# Altium footprint library rlc-chip.PcbLib: 57 footprints (part 2 of 4)
Each footprint in its own frame and in the unit in brackets; x right, y up, seen from the top. Pads: shape width x height; smd on the part's side, far side on the other; paste and mask are expansions set on the pad; w line width, h text height; cw(c..) or ccw(c..) is an arc to the next point about the centre after c.
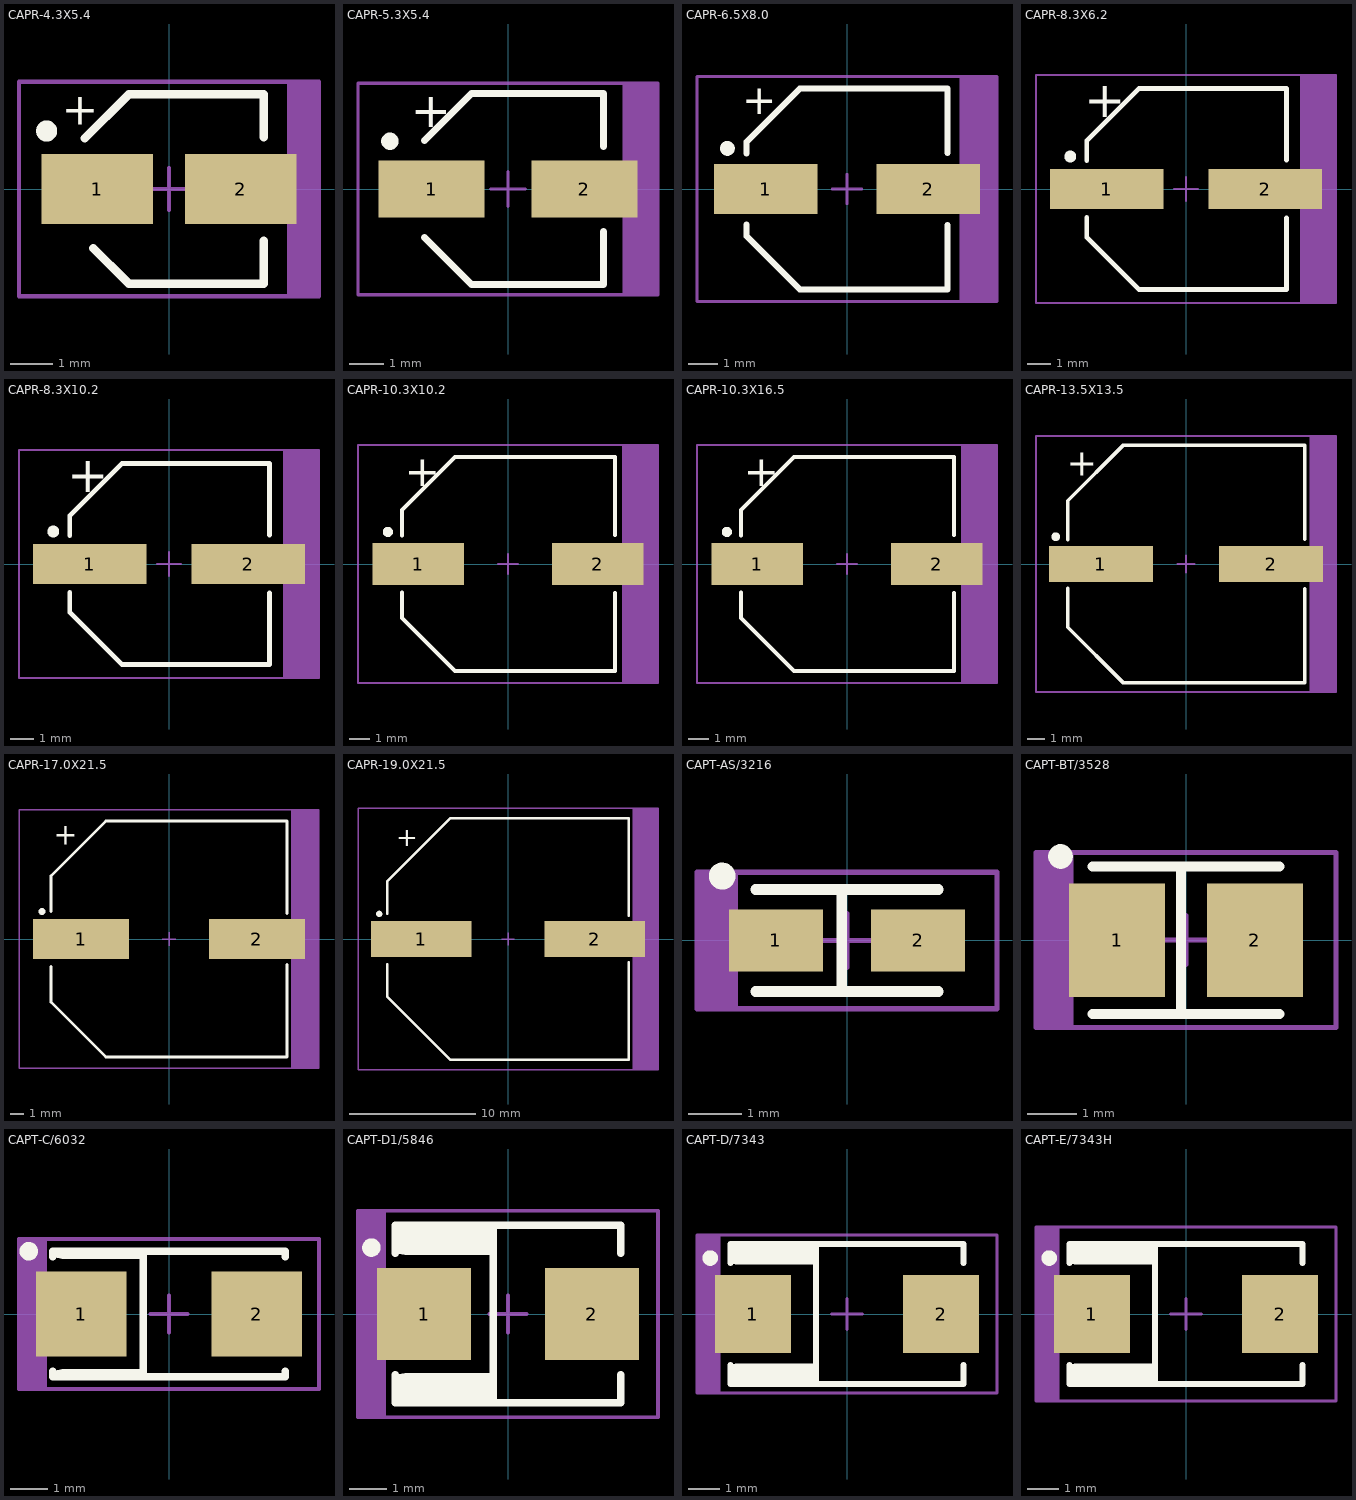
[diagram p1: the footprints below, top view; thin cyan lines are the x and y axes]

## CAPR-4.3X5.4 [mm] "Molded Capacitor, 2-Leads, Body 4,30x4,30mm, IPC Medium Density"
height 1
pads (2):
  rect 2.65x1.65 smd: 1(-1.7,0) 2(1.7,0)
Top Overlay:
  circle w0.25: c-2.9,1.375 r0.125
  lines w0.2: -2,1.2 -1,2.2 -0.95,2.25 2.25,2.25 2.25,1.225 ; -1.8,-1.4 -1,-2.2 -0.95,-2.25 2.25,-2.25 2.25,-1.225
  text "+" at -2.54,1.524 h0.76
Mechanical 13:
  region: 3.556,2.54 2.794,2.54 2.794,-2.54 3.556,-2.54
  lines w0.1: -3.556,-2.54 -3.556,2.54 3.556,2.54 3.556,-2.54 -3.556,-2.54
  text ".Designator" at -2.13,-0.56 h1.2
Mechanical 15:
  lines w0.05: -3.556,-2.54 -3.556,2.54 3.556,2.54 3.556,-2.54 -3.556,-2.54
  lines w0.1: -0.5,0 0.5,0 ; 0,-0.5 0,0.5
3D body: height 5.5, standoff 1, extent -2,-2 2,2
3D body: height 1, standoff 0, extent -2.3,-2.25 2.25,2.25

## CAPR-5.3X5.4 [mm] "Molded Capacitor, 2-Leads, Body 5,30x5,30mm, IPC Medium Density"
height 1
pads (2):
  rect 3.05x1.65 smd: 1(-2.2,0) 2(2.2,0)
Top Overlay:
  circle w0.25: c-3.4,1.375 r0.125
  lines w0.2: -2.4,-1.4 -1.05,-2.75 -1,-2.75 2.75,-2.75 2.75,-1.225 ; -2.4,1.4 -1.05,2.75 -0.95,2.75 2.75,2.75 2.75,1.225
  text "+" at -2.794,1.778 h1.02
Mechanical 13:
  region: 4.318,3.048 3.302,3.048 3.302,-3.048 4.318,-3.048
  lines w0.1: -4.318,-3.048 -4.318,3.048 4.318,3.048 4.318,-3.048 -4.318,-3.048
  text ".Designator" at -2.38,-0.62 h1.4
Mechanical 15:
  lines w0.05: -4.318,-3.048 -4.318,3.048 4.318,3.048 4.318,-3.048 -4.318,-3.048
  lines w0.1: -0.5,0 0.5,0 ; 0,-0.5 0,0.5
3D body: height 1, standoff 0, extent -2.8,-2.75 2.75,2.75
3D body: height 5.5, standoff 1, extent -2.5,-2.497 2.5,2.497

## CAPR-6.5X8.0 [mm] "Molded Capacitor, 2-Leads, Body 6,60x6,60mm, IPC Medium Density"
height 1
pads (2):
  rect 3.5x1.7 smd: 1(-2.75,0) 2(2.75,0)
Top Overlay:
  circle w0.25: c-4.05,1.375 r0.125
  lines w0.2: -3.4,-1.2 -3.4,-1.6 -1.6,-3.4 3.4,-3.4 3.4,-1.225 ; -3.4,1.2 -3.4,1.6 -1.6,3.4 3.4,3.4 3.4,1.225
  text "+" at -3.556,2.54 h1.02
Mechanical 13:
  region: 5.08,3.81 3.81,3.81 3.81,-3.81 5.08,-3.81
  lines w0.1: -5.08,-3.81 5.08,-3.81 5.08,3.81 -5.08,3.81 -5.08,-3.81
  text ".Designator" at -3.97,-0.91 h2
Mechanical 15:
  lines w0.05: -5.08,-3.81 5.08,-3.81 5.08,3.81 -5.08,3.81 -5.08,-3.81
  lines w0.1: -0.5,0 0.5,0 ; 0,-0.5 0,0.5
3D body: height 1, standoff 0, extent -3.4,-3.4 3.4,3.4
3D body: height 8, standoff 1, extent -3.2,-3.197 3.2,3.197

## CAPR-8.3X6.2 [mm] "Molded Capacitor, 2-Leads, Body 8,30x8,30mm, IPC Medium Density"
height 1
pads (2):
  rect 4.8x1.7 smd: 1(-3.35,0) 2(3.35,0)
Top Overlay:
  circle w0.25: c-4.9,1.375 r0.125
  lines w0.2: -4.2,-1.2 -4.2,-2.05 -2,-4.25 4.25,-4.25 4.25,-1.225 ; -4.2,1.2 -4.2,2.05 -2,4.25 4.25,4.25 4.25,1.225
  text "+" at -4.318,3.048 h1.52
Mechanical 13:
  region: 6.35,4.826 4.826,4.826 4.826,-4.826 6.35,-4.826
  lines w0.1: -6.35,-4.826 6.35,-4.826 6.35,4.826 -6.35,4.826 -6.35,-4.826
  text ".Designator" at -3.61,-0.96 h2
Mechanical 15:
  lines w0.05: -6.35,-4.826 6.35,-4.826 6.35,4.826 -6.35,4.826 -6.35,-4.826
  lines w0.1: -0.5,0 0.5,0 ; 0,-0.5 0,0.5
3D body: height 6, standoff 1, extent -4,-3.997 4,3.997
3D body: height 1, standoff 0, extent -4.25,-4.25 4.25,4.25

## CAPR-8.3X10.2 [mm] "Molded Capacitor, 2-Leads, Body 8,30x8,30mm, IPC Medium Density"
height 1
pads (2):
  rect 4.8x1.7 smd: 1(-3.35,0) 2(3.35,0)
Top Overlay:
  circle w0.25: c-4.9,1.375 r0.125
  lines w0.2: -4.2,-1.2 -4.2,-2.05 -2,-4.25 4.25,-4.25 4.25,-1.225 ; -4.2,1.2 -4.2,2.05 -2,4.25 4.25,4.25 4.25,1.225
  text "+" at -4.318,3.048 h1.52
Mechanical 13:
  region: 6.35,4.826 4.826,4.826 4.826,-4.826 6.35,-4.826
  lines w0.1: -6.35,-4.826 6.35,-4.826 6.35,4.826 -6.35,4.826 -6.35,-4.826
  text ".Designator" at -3.62,-1 h2
Mechanical 15:
  lines w0.05: -6.35,-4.826 6.35,-4.826 6.35,4.826 -6.35,4.826 -6.35,-4.826
  lines w0.1: -0.5,0 0.5,0 ; 0,-0.5 0,0.5
3D body: height 10, standoff 1, extent -4,-3.997 4,3.997
3D body: height 1, standoff 0, extent -4.25,-4.25 4.25,4.25

## CAPR-10.3X10.2 [mm] "Molded Capacitor, 2-Leads, Body 10,30x10,30mm, IPC Medium Density"
height 1
pads (2):
  rect 4.5x2.05 smd: 1(-4.4,0) 2(4.4,0)
Top Overlay:
  circle w0.25: c-5.9,1.575 r0.125
  lines w0.2: -5.2,-1.4 -5.2,-2.65 -2.6,-5.25 5.25,-5.25 5.25,-1.425 ; -5.2,1.4 -5.2,2.65 -2.6,5.25 5.25,5.25 5.25,1.425
  text "+" at -5.08,3.81 h1.52
Mechanical 13:
  region: 7.366,5.842 5.588,5.842 5.588,-5.842 7.366,-5.842
  lines w0.1: -7.366,-5.842 -7.366,5.842 7.366,5.842 7.366,-5.842 -7.366,-5.842
  text ".Designator" at -3.51,-1.02 h2
Mechanical 15:
  lines w0.05: -7.366,-5.842 -7.366,5.842 7.366,5.842 7.366,-5.842 -7.366,-5.842
  lines w0.1: -0.5,0 0.5,0 ; 0,-0.5 0,0.5
3D body: height 10.5, standoff 1, extent -5,-5 5,5
3D body: height 1, standoff 0, extent -5.25,-5.25 5.25,5.25

## CAPR-10.3X16.5 [mm] "Molded Capacitor, 2-Leads, Body 10,30x10,30mm, IPC Medium Density"
height 1
pads (2):
  rect 4.5x2.05 smd: 1(-4.4,0) 2(4.4,0)
Top Overlay:
  circle w0.25: c-5.9,1.575 r0.125
  lines w0.2: -5.2,-1.4 -5.2,-2.65 -2.6,-5.25 5.25,-5.25 5.25,-1.425 ; -5.2,1.4 -5.2,2.65 -2.6,5.25 5.25,5.25 5.25,1.425
  text "+" at -5.08,3.81 h1.52
Mechanical 13:
  region: 7.366,5.842 5.588,5.842 5.588,-5.842 7.366,-5.842
  lines w0.1: -7.366,-5.842 -7.366,5.842 7.366,5.842 7.366,-5.842 -7.366,-5.842
  text ".Designator" at -3.41,-1.03 h2
Mechanical 15:
  lines w0.05: -7.366,-5.842 -7.366,5.842 7.366,5.842 7.366,-5.842 -7.366,-5.842
  lines w0.1: -0.5,0 0.5,0 ; 0,-0.5 0,0.5
3D body: height 10.5, standoff 1, extent -5,-5 5,5
3D body: height 1, standoff 0, extent -5.25,-5.25 5.25,5.25

## CAPR-13.5X13.5 [mm] "Molded Capacitor, 2-Leads, Body 13,50x13,50mm, IPC Medium Density"
height 1
pads (2):
  rect 6x2.05 smd: 1(-4.9,0) 2(4.9,0)
Top Overlay:
  circle w0.25: c-7.5,1.575 r0.125
  lines w0.2: -6.8,-1.4 -6.8,-3.65 -3.6,-6.85 6.85,-6.85 6.85,-1.425 ; -6.8,1.4 -6.8,3.65 -3.6,6.85 6.85,6.85 6.85,1.425
  text "+" at -6.858,5.08 h1.52
Mechanical 13:
  region: 8.636,7.366 7.112,7.366 7.112,-7.366 8.636,-7.366
  lines w0.1: -8.636,-7.366 8.636,-7.366 8.636,7.366 -8.636,7.366 -8.636,-7.366
  text ".Designator" at -3.45,-0.99 h2
Mechanical 15:
  lines w0.05: -8.636,-7.366 8.636,-7.366 8.636,7.366 -8.636,7.366 -8.636,-7.366
  lines w0.1: -0.5,0 0.5,0 ; 0,-0.5 0,0.5
3D body: height 17, standoff 1, extent -6.5,-6.5 6.5,6.5
3D body: height 1, standoff 0, extent -6.85,-6.85 6.85,6.85

## CAPR-17.0X21.5 [mm] "Molded Capacitor, 2-Leads, Body 17,00x17,00mm, IPC Medium Density"
height 1
pads (2):
  rect 7x2.9 smd: 1(-6.4,0) 2(6.4,0)
Top Overlay:
  circle w0.25: c-9.25,2 r0.125
  lines w0.2: -8.6,-2 -8.6,-4.6 -4.6,-8.6 ; -8.6,2 -8.6,4.6 -4.6,8.6 ; 8.6,-1.85 8.6,-8.6 -4.6,-8.6 ; 8.6,1.85 8.6,8.6 -4.6,8.6 ; -4.6,-8.6 -4.6,-8.6 ; -4.6,8.6 -4.6,8.6
  text "+" at -8.382,6.858 h1.52
Mechanical 13:
  region: 10.922,9.398 8.89,9.398 8.89,-9.398 10.922,-9.398
  lines w0.1: -10.922,-9.398 -10.922,9.398 10.922,9.398 10.922,-9.398 -10.922,-9.398
  text ".Designator" at -3.7,-1.01 h2
Mechanical 15:
  lines w0.05: -10.922,-9.398 -10.922,9.398 10.922,9.398 10.922,-9.398 -10.922,-9.398
  lines w0.1: -0.5,0 0.5,0 ; 0,-0.5 0,0.5
3D body: height 22, standoff 1, extent -8,-8 8,8
3D body: height 1, standoff 0, extent -8.6,-8.6 8.6,8.6

## CAPR-19.0X21.5 [mm] "Molded Capacitor, 2-Leads, Body 19,00x19,00mm, IPC Medium Density"
height 1
pads (2):
  rect 8x2.9 smd: 1(-6.9,0) 2(6.9,0)
Top Overlay:
  circle w0.25: c-10.25,2 r0.125
  lines w0.2: -9.6,-2 -9.6,-4.6 -4.6,-9.6 ; -9.6,2 -9.6,4.6 -4.6,9.6 9.6,9.6 9.6,1.85 ; 9.6,-1.85 9.6,-9.6 -4.6,-9.6 ; -4.6,-9.6 -4.6,-9.6
  text "+" at -8.89,7.366 h1.52
Mechanical 13:
  region: 11.938,10.414 9.906,10.414 9.906,-10.414 11.938,-10.414
  lines w0.1: -11.938,-10.414 -11.938,10.414 11.938,10.414 11.938,-10.414 -11.938,-10.414
  text ".Designator" at -3.61,-0.9 h2
Mechanical 15:
  lines w0.05: -11.938,-10.414 -11.938,10.414 11.938,10.414 11.938,-10.414 -11.938,-10.414
  lines w0.1: -0.5,0 0.5,0 ; 0,-0.5 0,0.5
3D body: height 22, standoff 1, extent -9,-8.997 9,8.997
3D body: height 1, standoff 0, extent -9.6,-9.6 9.6,9.6

## CAPT-AS/3216 [mm] "Molded Capacitor, 2-Leads, Body 3,20x1,65mm, IPC Medium Density"
height 1.8
pads (2):
  rect 1.75x1.15 smd: 1(-1.325,0) 2(1.325,0)
Top Overlay:
  circle w0.25: c-2.325,1.2 r0.125
  lines w0.2: -1.7,-0.95 1.7,-0.95 ; -1.7,0.95 1.7,0.95 ; -0.1,-0.95 -0.1,0.95
Mechanical 13:
  rectangle: -2.794,-1.27 -2.032,1.27
  lines w0.1: -2.794,-1.27 2.794,-1.27 2.794,1.27 -2.794,1.27 -2.794,-1.27
  text ".Designator" at -1.81,-0.57 h1.2
Mechanical 15:
  lines w0.05: -2.794,-1.27 2.794,-1.27 2.794,1.27 -2.794,1.27 -2.794,-1.27
  lines w0.1: -0.5,0 0.5,0 ; 0,-0.5 0,0.5
3D body: height 1.8, standoff 0, extent -1.7,-0.95 -0.4,0.95
3D body: height 1.8, standoff 0, extent -0.4,-0.95 1.7,0.95

## CAPT-BT/3528 [mm] "Molded Capacitor, 2-Leads, Body 3,50x2,85mm, IPC Medium Density"
height 2.1
pads (2):
  rect 1.95x2.3 smd: 1(-1.4,0) 2(1.4,0)
Top Overlay:
  circle w0.25: c-2.55,1.7 r0.125
  lines w0.2: -1.9,-1.5 1.9,-1.5 ; -1.9,1.5 1.9,1.5 ; -0.1,-1.5 -0.1,1.5
Mechanical 13:
  rectangle: -3.048,-1.778 -2.286,1.778
  lines w0.1: -3.048,-1.778 3.048,-1.778 3.048,1.778 -3.048,1.778 -3.048,-1.778
  text ".Designator" at -1.82,-0.56 h1.2
Mechanical 15:
  lines w0.05: -3.048,-1.778 3.048,-1.778 3.048,1.778 -3.048,1.778 -3.048,-1.778
  lines w0.1: -0.5,0 0.5,0 ; 0,-0.5 0,0.5
3D body: height 2.1, standoff 0, extent -1.9,-1.5 -0.4,1.5
3D body: height 2.1, standoff 0, extent -0.4,-1.5 1.85,1.5

## CAPT-C/6032 [mm] "Molded Capacitor, 2-Leads, Body 6,00x3,25mm, IPC Medium Density"
height 2.8
pads (2):
  rect 2.45x2.3 smd: 1(-2.375,0) 2(2.375,0)
Top Overlay:
  circle w0.25: c-3.8,1.7 r0.125
  region: -0.7,-1.5 -2.9,-1.5 -3.15,-1.55 -3.15,-1.7 -0.7,-1.7
  region: -0.7,1.5 -2.9,1.5 -3.15,1.55 -3.15,1.7 -0.7,1.7
  lines w0.2: -3.15,-1.55 -3.15,-1.7 3.15,-1.7 3.15,-1.55 ; -3.15,1.55 -3.15,1.7 3.15,1.7 3.15,1.55 ; -0.7,-1.7 -0.7,1.7
Mechanical 13:
  rectangle: -4.064,-2.032 -3.302,2.032
  lines w0.1: -4.064,-2.032 4.064,-2.032 4.064,2.032 -4.064,2.032 -4.064,-2.032
  text ".Designator" at -2.64,-0.72 h1.6
Mechanical 15:
  lines w0.05: -4.064,-2.032 -4.064,2.032 4.064,2.032 4.064,-2.032 -4.064,-2.032
  lines w0.1: -0.5,0 0.5,0 ; 0,-0.5 0,0.5
3D body: height 2.8, standoff 0, extent -3.15,-1.7 -1.2,1.7
3D body: height 2.8, standoff 0, extent -1.2,-1.7 3.1,1.7

## CAPT-D1/5846 [mm] "Molded Capacitor, 2-Leads, Body 5,80x4,60mm, IPC Medium Density"
height 3.4
pads (2):
  rect 2.55x2.5 smd: 1(-2.275,0) 2(2.275,0)
Top Overlay:
  circle w0.25: c-3.7,1.8 r0.125
  region: -0.4,-1.6 -2.8,-1.6 -3.05,-1.65 -3.05,-2.4 -0.4,-2.4
  region: -0.4,1.6 -2.8,1.6 -3.05,1.65 -3.05,2.4 -0.4,2.4
  lines w0.2: -3.05,-1.65 -3.05,-2.4 3.05,-2.4 3.05,-1.65 ; -3.05,1.65 -3.05,2.4 3.05,2.4 3.05,1.65 ; -0.4,-2.4 -0.4,2.4
Mechanical 13:
  rectangle: -4.064,-2.794 -3.302,2.794
  lines w0.1: -4.064,-2.794 -4.064,2.794 4.064,2.794 4.064,-2.794 -4.064,-2.794
  text ".Designator" at -2.66,-0.73 h1.6
Mechanical 15:
  lines w0.05: -4.064,-2.794 -4.064,2.794 4.064,2.794 4.064,-2.794 -4.064,-2.794
  lines w0.1: -0.5,0 0.5,0 ; 0,-0.5 0,0.5
3D body: height 3.4, standoff 0, extent -1,-2.4 3.05,2.4
3D body: height 3.4, standoff 0, extent -3.05,-2.4 -1,2.4

## CAPT-D/7343 [mm] "Molded Capacitor, 2-Leads, Body 7,30x4,35mm, IPC Medium Density"
height 3
pads (2):
  rect 2.45x2.5 smd: 1(-3.025,0) 2(3.025,0)
Top Overlay:
  circle w0.25: c-4.4,1.8 r0.125
  region: -1,1.6 -3.6,1.6 -3.75,1.65 -3.75,2.25 -1,2.25
  region: -1,-1.6 -3.6,-1.6 -3.75,-1.65 -3.75,-2.25 -1,-2.25
  lines w0.2: -3.75,-1.65 -3.75,-2.25 3.75,-2.25 3.75,-1.65 ; -3.75,1.65 -3.75,2.25 3.75,2.25 3.75,1.65 ; -1,-2.25 -1,2.25
Mechanical 13:
  rectangle: -4.826,-2.54 -4.064,2.54
  lines w0.1: -4.826,-2.54 -4.826,2.54 4.826,2.54 4.826,-2.54 -4.826,-2.54
  text ".Designator" at -3.35,-0.97 h2
Mechanical 15:
  lines w0.05: -4.826,-2.54 4.826,-2.54 4.826,2.54 -4.826,2.54 -4.826,-2.54
  lines w0.1: -0.5,0 0.5,0 ; 0,-0.5 0,0.5
3D body: height 3, standoff 0, extent -3.75,-2.25 -1,2.25
3D body: height 3, standoff 0, extent -1,-2.25 3.75,2.25

## CAPT-E/7343H [mm] "Molded Capacitor, 2-Leads, Body 7,30x4,35mm, IPC Medium Density"
height 4.2
pads (2):
  rect 2.45x2.5 smd: 1(-3.025,0) 2(3.025,0)
Top Overlay:
  circle w0.25: c-4.4,1.8 r0.125
  region: -1,1.6 -3.6,1.6 -3.75,1.65 -3.75,2.25 -1,2.25
  region: -1,-1.6 -3.6,-1.6 -3.75,-1.65 -3.75,-2.25 -1,-2.25
  lines w0.2: -3.75,-1.65 -3.75,-2.25 3.75,-2.25 3.75,-1.65 ; -3.75,1.65 -3.75,2.25 3.75,2.25 3.75,1.65 ; -1,-2.25 -1,2.25
Mechanical 13:
  rectangle: -4.826,-2.794 -4.064,2.794
  lines w0.1: -4.826,-2.794 -4.826,2.794 4.826,2.794 4.826,-2.794 -4.826,-2.794
  text ".Designator" at -3.3,-0.92 h2
Mechanical 15:
  lines w0.05: -4.826,-2.794 -4.826,2.794 4.826,2.794 4.826,-2.794 -4.826,-2.794
  lines w0.1: -0.5,0 0.5,0 ; 0,-0.5 0,0.5
3D body: height 4.2, standoff 0, extent -1,-2.25 3.75,2.25
3D body: height 4.2, standoff 0, extent -3.75,-2.25 -1,2.25